# EAGLE library part DIP28 (library con-ezo)
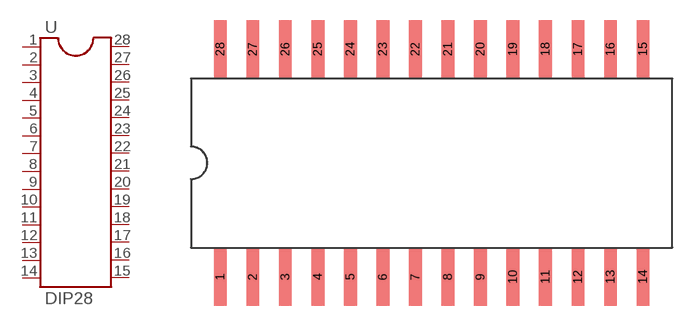
[diagram p2: symbol with the pads of DIP28P; footprint DIP28P]

Designator prefix -

## DIP28  [DIP28P]
1  1  pas
2  2  pas
3  3  pas
4  4  pas
5  5  pas
6  6  pas
7  7  pas
8  8  pas
9  9  pas
10  10  pas
11  11  pas
12  12  pas
13  13  pas
14  14  pas
15  15  pas
16  16  pas
17  17  pas
18  18  pas
19  19  pas
20  20  pas
21  21  pas
22  22  pas
23  23  pas
24  24  pas
25  25  pas
26  26  pas
27  27  pas
28  28  pas

## Footprint DIP28P (pad centres in mm)
smd 1 x 4.5: 1 -16.51,-8.89; 2 -13.97,-8.89; 3 -11.43,-8.89; 4 -8.89,-8.89; 5 -6.35,-8.89; 6 -3.81,-8.89; 7 -1.27,-8.89; 8 1.27,-8.89; 9 3.81,-8.89; 10 6.35,-8.89; 11 8.89,-8.89; 12 11.43,-8.89; 13 13.97,-8.89; 14 16.51,-8.89; 15 16.51,8.89; 16 13.97,8.89; 17 11.43,8.89; 18 8.89,8.89; 19 6.35,8.89; 20 3.81,8.89; 21 1.27,8.89; 22 -1.27,8.89; 23 -3.81,8.89; 24 -6.35,8.89; 25 -8.89,8.89; 26 -11.43,8.89; 27 -13.97,8.89; 28 -16.51,8.89